# EAGLE library part AUDIO-AMP-STEREO-HEADSET-TPA6111 (library FlashPCB_ICs)
TPA6111 - IC AMP CLASS AB STER 150MW 8SOIC Technical Specifications: Amplifier IC Headphones, 2-Channel (Stereo) Class AB 8-SOIC Output Type: Headphones, 2-Channel (Stereo) Max Output Power: 150mW x 2 @16 Ohm Supply Voltage: 2.5V~5.5V Features: Depop, Short-Circuit, Thermal Protection, Shutdown Pin Compatible w/ TPA122, LM4880, LM4881 (SOIC) Component Search: TPA6111 <https://www.flashpcb.com/components> Datasheet: TPA6111A2 150-mW Stereo Audio Power Amplifier datasheet (Rev. C) <https://www.ti.com/lit/ds/symlink/tpa6111a2.pdf?HQS=dis-dk-null-digikeymode-dsf-pf-null-wwe&ts=1685563047734&ref_url=https%253A%252F%252Fwww.ti.com%252Fgeneral%252Fdocs%252Fsuppproductinfo.tsp%253FdistId%253D10%2526gotoUrl%253Dhttps%253A%252F%252Fwww.ti.com%252Flit%252Fgpn%252Ftpa6111a2>
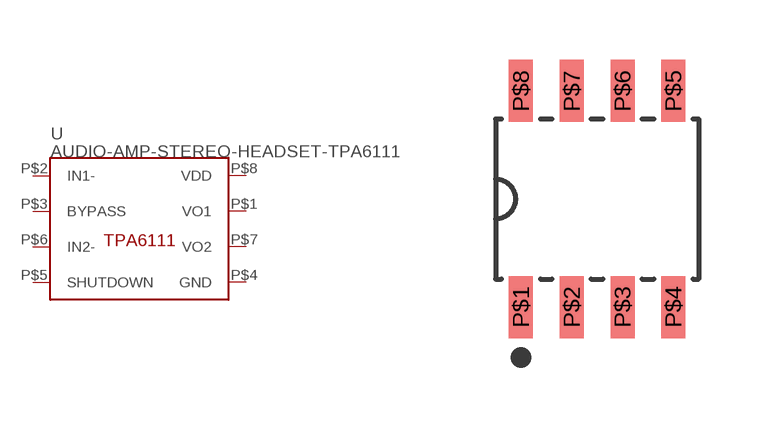
[diagram p19: symbol with the pads of SOIC-8-150MIL-3.9MM; footprint SOIC-8-150MIL-3.9MM]

Designator prefix U

## AUDIO-AMP-STEREO-HEADSET-TPA6111D  [SOIC-8-150MIL-3.9MM]
P$1  VO1
P$2  IN1-
P$3  BYPASS
P$4  GND
P$5  SHUTDOWN
P$6  IN2-
P$7  VO2
P$8  VDD

## Footprint SOIC-8-150MIL-3.9MM (pad centres in mm)
smd 0.6 x 1.55: P$1 -1.905,-2.7; P$2 -0.635,-2.7; P$3 0.635,-2.7; P$4 1.905,-2.7; P$5 1.905,2.7; P$6 0.635,2.7; P$7 -0.635,2.7; P$8 -1.905,2.7